# Altium schematic symbol library Interface_I2C.SchLib: 424 symbols (part 2 of 23)
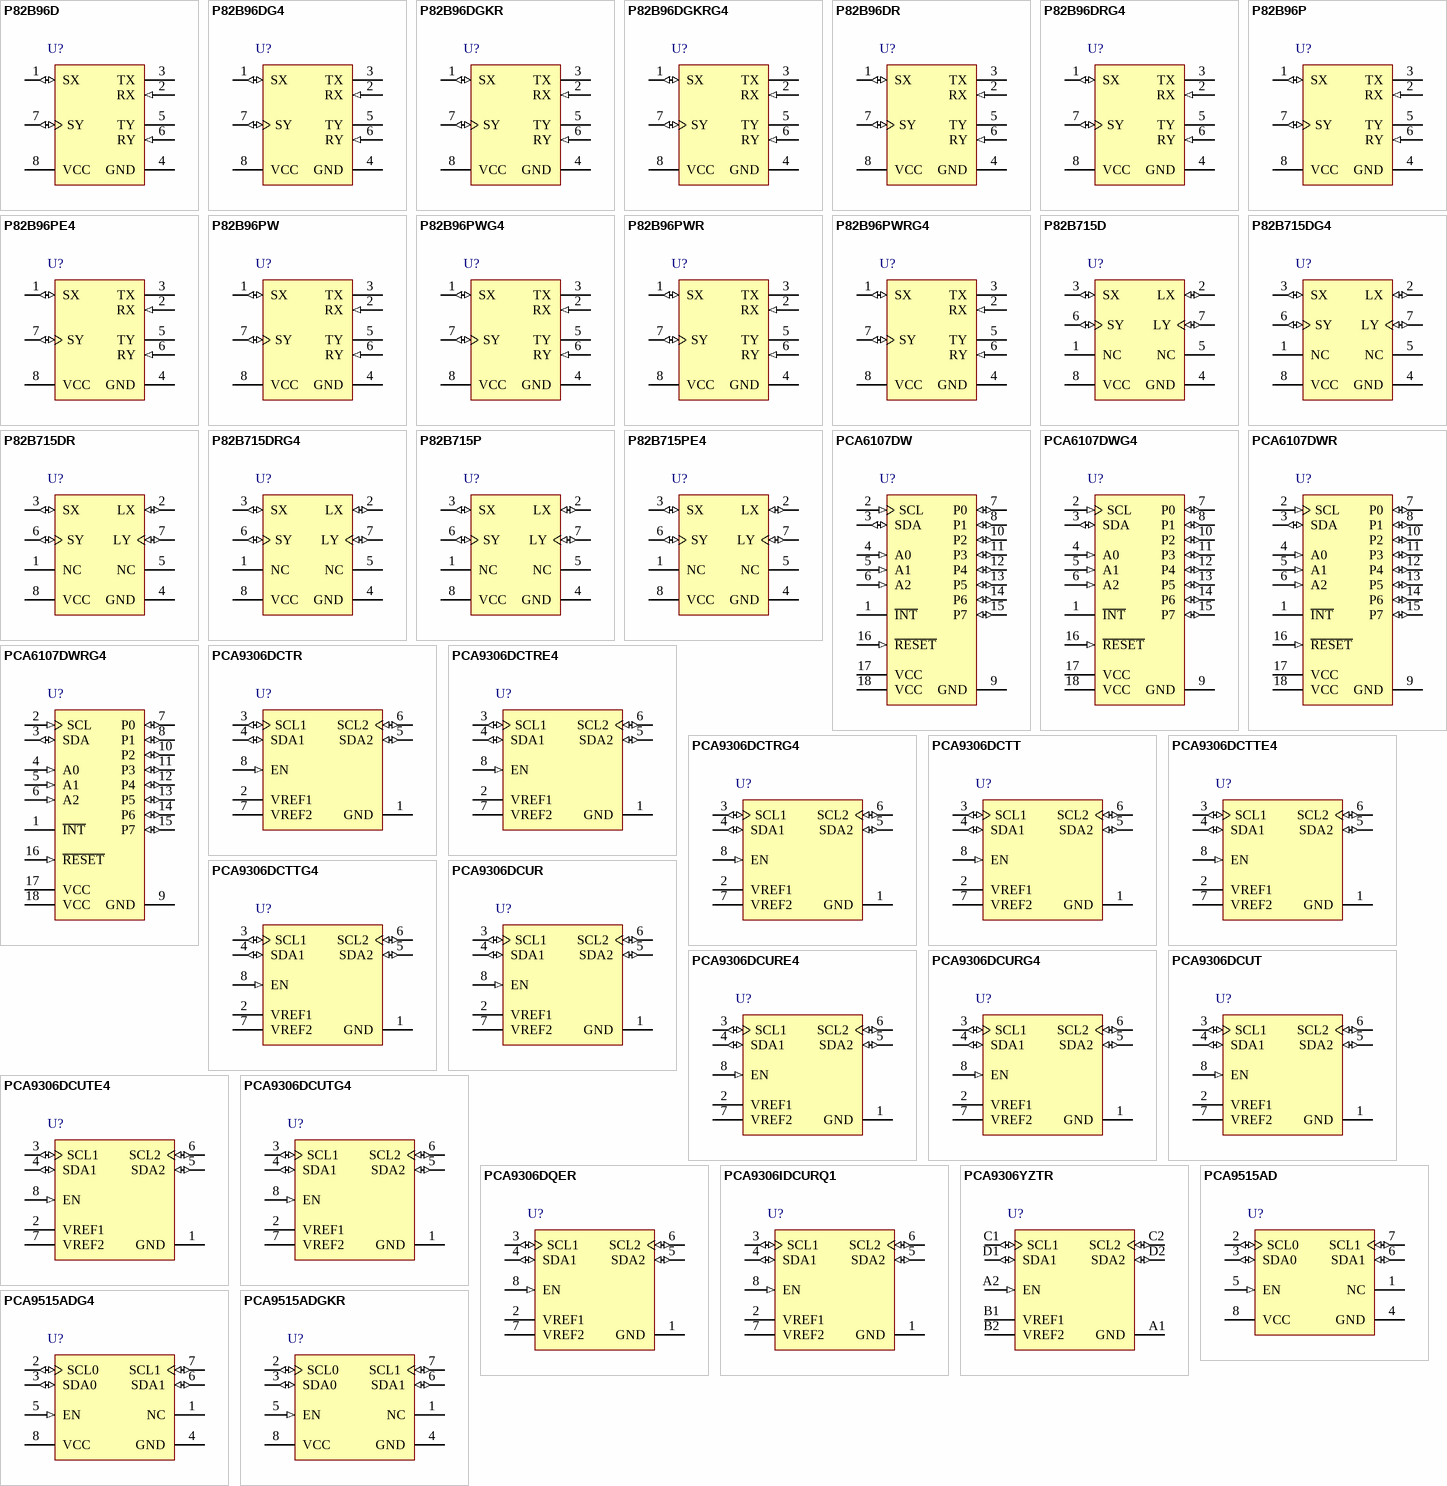
[diagram p14: symbols P82B96D to PCA9515ADGKR]

## PCA9306DCTRG4
designator U?
Dual Bi-Directional I2C-Bus and SMBus Voltage Level-Translator, 0 to 5.5 V, -40 to 85 degC, 8-pin SM8 (DCT), Green (RoHS & no Sb/Br); Manufacturer: Texas Instruments; PartNumber: PCA9306DCTRG4; SubFamily: I2C Special Function; No. of Outputs: 2; tpd max(ns): 1.5; fSCLK(Max)(MHz): 400; Function: Voltage Translator; Vcc range(V): 0 to 5.5; Enable Pin: Yes; Rating: Catalog; DatasheetVersion: SCPS113J; PackageVersion: revC, Sep-2002; PackageReference: DCT8; PackageDescription: 8-Pin Thin Small Outline Package 3 x 2.8 mm Body ,0.65 mm Pitch; Supplier 1: Digi-Key; Supplier Part Number 1: PCA9306DCTRG4-ND; Supplier 2: Newark; Supplier Part Number 2: 12P7762; Supplier 3: Mouser; Supplier Part Number 3: 595-PCA9306DCTRG4; Eco-Plan: Green (RoHS & no Sb/Br); Max Frequency(kHz): 400; Open Drain I/O Type: Yes; 5V Tolerant I/O: Yes; On-Chip Power-on-Reset: No; Mounting Technology: Surface Mount; Code_JEDEC: MO-187-DA; ComponentLink1Description: Datasheet; ComponentLink1URL: http://www.ti.com/general/docs/lit/getliterature.tsp?genericPartNumber=PCA9306&fileType=pdf; ComponentLink2Description: Package Specification; ComponentLink2URL: http://www.ti.com/litv/pdf/mpds049b
footprint DCT8_N (TSOP, 8-Leads, Body 3x2.8mm, Pitch 0.65mm, IPC Medium Density)
footprint DCT8_L (TSOP, 8-Leads, Body 3x2.8mm, Pitch 0.65mm, IPC High Density)
footprint DCT8_M (TSOP, 8-Leads, Body 3x2.8mm, Pitch 0.65mm, IPC Low Density)
pins: 1 GND (power) "Ground, 0 V", 2 VREF1 (power) "Low-voltage-side reference supply voltage for SCL1 and SDA1", 3 SCL1 (io) "Serial clock, low-voltage side", 4 SDA1 (io) "Serial data, low-voltage side", 5 SDA2 (io) "Serial data, high-voltage side", 6 SCL2 (io) "Serial clock, high-voltage side", 7 VREF2 (power) "High-voltage-side reference supply voltage for SCL2 and SDA2", 8 EN (in) "Switch enable input"

## PCA9306DCTT
designator U?
Dual Bi-Directional I2C-Bus and SMBus Voltage Level-Translator, 0 to 5.5 V, -40 to 85 degC, 8-pin SM8 (DCT), Green (RoHS & no Sb/Br); Manufacturer: Texas Instruments; PartNumber: PCA9306DCTT; SubFamily: I2C Special Function; No. of Outputs: 2; tpd max(ns): 1.5; fSCLK(Max)(MHz): 400; Function: Voltage Translator; Vcc range(V): 0 to 5.5; Enable Pin: Yes; Rating: Catalog; DatasheetVersion: SCPS113J; PackageVersion: revC, Sep-2002; PackageReference: DCT8; PackageDescription: 8-Pin Thin Small Outline Package 3 x 2.8 mm Body ,0.65 mm Pitch; Supplier 1: Digi-Key; Supplier Part Number 1: PCA9306DCTT-ND; Supplier 2: Farnell; Supplier Part Number 2: 1408281; Supplier 3: Newark; Supplier Part Number 3: 65J6233; Supplier 4: Mouser; Supplier Part Number 4: 595-PCA9306DCTT; Eco-Plan: Green (RoHS & no Sb/Br); Max Frequency(kHz): 400; Open Drain I/O Type: Yes; 5V Tolerant I/O: Yes; On-Chip Power-on-Reset: No; Mounting Technology: Surface Mount; Code_JEDEC: MO-187-DA; ComponentLink1Description: Datasheet; ComponentLink1URL: http://www.ti.com/general/docs/lit/getliterature.tsp?genericPartNumber=PCA9306&fileType=pdf; ComponentLink2Description: Package Specification; ComponentLink2URL: http://www.ti.com/litv/pdf/mpds049b
footprint DCT8_N (TSOP, 8-Leads, Body 3x2.8mm, Pitch 0.65mm, IPC Medium Density)
footprint DCT8_L (TSOP, 8-Leads, Body 3x2.8mm, Pitch 0.65mm, IPC High Density)
footprint DCT8_M (TSOP, 8-Leads, Body 3x2.8mm, Pitch 0.65mm, IPC Low Density)
pins: 1 GND (power) "Ground, 0 V", 2 VREF1 (power) "Low-voltage-side reference supply voltage for SCL1 and SDA1", 3 SCL1 (io) "Serial clock, low-voltage side", 4 SDA1 (io) "Serial data, low-voltage side", 5 SDA2 (io) "Serial data, high-voltage side", 6 SCL2 (io) "Serial clock, high-voltage side", 7 VREF2 (power) "High-voltage-side reference supply voltage for SCL2 and SDA2", 8 EN (in) "Switch enable input"

## PCA9306DCTTE4
designator U?
Dual Bi-Directional I2C-Bus and SMBus Voltage Level-Translator, 0 to 5.5 V, -40 to 85 degC, 8-pin SM8 (DCT), Green (RoHS & no Sb/Br); Manufacturer: Texas Instruments; PartNumber: PCA9306DCTTE4; SubFamily: I2C Special Function; No. of Outputs: 2; tpd max(ns): 1.5; fSCLK(Max)(MHz): 400; Function: Voltage Translator; Vcc range(V): 0 to 5.5; Enable Pin: Yes; Rating: Catalog; DatasheetVersion: SCPS113J; PackageVersion: revC, Sep-2002; PackageReference: DCT8; PackageDescription: 8-Pin Thin Small Outline Package 3 x 2.8 mm Body ,0.65 mm Pitch; Supplier 1: Digi-Key; Supplier Part Number 1: PCA9306DCTTE4-ND; Supplier 2: Newark; Supplier Part Number 2: 70K4189; Supplier 3: Mouser; Supplier Part Number 3: 595-PCA9306DCTTE4; Eco-Plan: Green (RoHS & no Sb/Br); Max Frequency(kHz): 400; Open Drain I/O Type: Yes; 5V Tolerant I/O: Yes; On-Chip Power-on-Reset: No; Mounting Technology: Surface Mount; Code_JEDEC: MO-187-DA; ComponentLink1Description: Datasheet; ComponentLink1URL: http://www.ti.com/general/docs/lit/getliterature.tsp?genericPartNumber=PCA9306&fileType=pdf; ComponentLink2Description: Package Specification; ComponentLink2URL: http://www.ti.com/litv/pdf/mpds049b
footprint DCT8_N (TSOP, 8-Leads, Body 3x2.8mm, Pitch 0.65mm, IPC Medium Density)
footprint DCT8_L (TSOP, 8-Leads, Body 3x2.8mm, Pitch 0.65mm, IPC High Density)
footprint DCT8_M (TSOP, 8-Leads, Body 3x2.8mm, Pitch 0.65mm, IPC Low Density)
pins: 1 GND (power) "Ground, 0 V", 2 VREF1 (power) "Low-voltage-side reference supply voltage for SCL1 and SDA1", 3 SCL1 (io) "Serial clock, low-voltage side", 4 SDA1 (io) "Serial data, low-voltage side", 5 SDA2 (io) "Serial data, high-voltage side", 6 SCL2 (io) "Serial clock, high-voltage side", 7 VREF2 (power) "High-voltage-side reference supply voltage for SCL2 and SDA2", 8 EN (in) "Switch enable input"

## PCA9306DCTTG4
designator U?
Dual Bi-Directional I2C-Bus and SMBus Voltage Level-Translator, 0 to 5.5 V, -40 to 85 degC, 8-pin SM8 (DCT), Green (RoHS & no Sb/Br); Manufacturer: Texas Instruments; PartNumber: PCA9306DCTTG4; SubFamily: I2C Special Function; No. of Outputs: 2; tpd max(ns): 1.5; fSCLK(Max)(MHz): 400; Function: Voltage Translator; Vcc range(V): 0 to 5.5; Enable Pin: Yes; Rating: Catalog; DatasheetVersion: SCPS113J; PackageVersion: revC, Sep-2002; PackageReference: DCT8; PackageDescription: 8-Pin Thin Small Outline Package 3 x 2.8 mm Body ,0.65 mm Pitch; Supplier 1: Digi-Key; Supplier Part Number 1: PCA9306DCTTG4-ND; Supplier 2: Newark; Supplier Part Number 2: 12P7763; Supplier 3: Mouser; Supplier Part Number 3: 595-PCA9306DCTTG4; Eco-Plan: Green (RoHS & no Sb/Br); Max Frequency(kHz): 400; Open Drain I/O Type: Yes; 5V Tolerant I/O: Yes; On-Chip Power-on-Reset: No; Mounting Technology: Surface Mount; Code_JEDEC: MO-187-DA; ComponentLink1Description: Datasheet; ComponentLink1URL: http://www.ti.com/general/docs/lit/getliterature.tsp?genericPartNumber=PCA9306&fileType=pdf; ComponentLink2Description: Package Specification; ComponentLink2URL: http://www.ti.com/litv/pdf/mpds049b
footprint DCT8_N (TSOP, 8-Leads, Body 3x2.8mm, Pitch 0.65mm, IPC Medium Density)
footprint DCT8_L (TSOP, 8-Leads, Body 3x2.8mm, Pitch 0.65mm, IPC High Density)
footprint DCT8_M (TSOP, 8-Leads, Body 3x2.8mm, Pitch 0.65mm, IPC Low Density)
pins: 1 GND (power) "Ground, 0 V", 2 VREF1 (power) "Low-voltage-side reference supply voltage for SCL1 and SDA1", 3 SCL1 (io) "Serial clock, low-voltage side", 4 SDA1 (io) "Serial data, low-voltage side", 5 SDA2 (io) "Serial data, high-voltage side", 6 SCL2 (io) "Serial clock, high-voltage side", 7 VREF2 (power) "High-voltage-side reference supply voltage for SCL2 and SDA2", 8 EN (in) "Switch enable input"

## PCA9306DCUR
designator U?
Dual Bi-Directional I2C-Bus and SMBus Voltage Level-Translator, 0 to 5.5 V, -40 to 85 degC, 8-pin US8 (DCU), Green (RoHS & no Sb/Br); Manufacturer: Texas Instruments; PartNumber: PCA9306DCUR; SubFamily: I2C Special Function; No. of Outputs: 2; tpd max(ns): 1.5; fSCLK(Max)(MHz): 400; Function: Voltage Translator; Vcc range(V): 0 to 5.5; Enable Pin: Yes; Rating: Catalog; DatasheetVersion: SCPS113J; PackageVersion: revF, Jul-2005; PackageReference: DCU8; PackageDescription: 8-Pin Thin Shrink Small Outline Package 0.5 mm Pitch; Supplier 1: Digi-Key; Supplier Part Number 1: 296-17988-2-ND; Supplier 2: Digi-Key; Supplier Part Number 2: 296-17988-1-ND; Supplier 3: Digi-Key; Supplier Part Number 3: 296-17988-6-ND; Supplier 4: Farnell; Supplier Part Number 4: 2124922; Supplier 5: Newark; Supplier Part Number 5: 24K4704; Supplier 6: Mouser; Supplier Part Number 6: 595-PCA9306DCUR; Eco-Plan: Green (RoHS & no Sb/Br); Max Frequency(kHz): 400; Open Drain I/O Type: Yes; 5V Tolerant I/O: Yes; On-Chip Power-on-Reset: No; Mounting Technology: Surface Mount; Code_JEDEC: MO-187-CA; ComponentLink1Description: Datasheet; ComponentLink1URL: http://www.ti.com/general/docs/lit/getliterature.tsp?genericPartNumber=PCA9306&fileType=pdf; ComponentLink2Description: Package Specification; ComponentLink2URL: http://www.ti.com/litv/pdf/mpds050d
footprint DCU8_N (TSSOP, 8-Leads, Body 2x2.3mm, Pitch 0.5mm, IPC Medium Density)
footprint DCU8_L (TSSOP, 8-Leads, Body 2x2.3mm, Pitch 0.5mm, IPC High Density)
footprint DCU8_M (TSSOP, 8-Leads, Body 2x2.3mm, Pitch 0.5mm, IPC Low Density)
pins: 1 GND (power) "Ground, 0 V", 2 VREF1 (power) "Low-voltage-side reference supply voltage for SCL1 and SDA1", 3 SCL1 (io) "Serial clock, low-voltage side", 4 SDA1 (io) "Serial data, low-voltage side", 5 SDA2 (io) "Serial data, high-voltage side", 6 SCL2 (io) "Serial clock, high-voltage side", 7 VREF2 (power) "High-voltage-side reference supply voltage for SCL2 and SDA2", 8 EN (in) "Switch enable input"

## PCA9306DCURE4
designator U?
Dual Bi-Directional I2C-Bus and SMBus Voltage Level-Translator, 0 to 5.5 V, -40 to 85 degC, 8-pin US8 (DCU), Green (RoHS & no Sb/Br); Manufacturer: Texas Instruments; PartNumber: PCA9306DCURE4; SubFamily: I2C Special Function; No. of Outputs: 2; tpd max(ns): 1.5; fSCLK(Max)(MHz): 400; Function: Voltage Translator; Vcc range(V): 0 to 5.5; Enable Pin: Yes; Rating: Catalog; DatasheetVersion: SCPS113J; PackageVersion: revF, Jul-2005; PackageReference: DCU8; PackageDescription: 8-Pin Thin Shrink Small Outline Package 0.5 mm Pitch; Supplier 1: Digi-Key; Supplier Part Number 1: PCA9306DCURE4-ND; Supplier 2: Newark; Supplier Part Number 2: 37K0653; Supplier 3: Mouser; Supplier Part Number 3: 595-PCA9306DCURE4; Eco-Plan: Green (RoHS & no Sb/Br); Max Frequency(kHz): 400; Open Drain I/O Type: Yes; 5V Tolerant I/O: Yes; On-Chip Power-on-Reset: No; Mounting Technology: Surface Mount; Code_JEDEC: MO-187-CA; ComponentLink1Description: Datasheet; ComponentLink1URL: http://www.ti.com/general/docs/lit/getliterature.tsp?genericPartNumber=PCA9306&fileType=pdf; ComponentLink2Description: Package Specification; ComponentLink2URL: http://www.ti.com/litv/pdf/mpds050d
footprint DCU8_N (TSSOP, 8-Leads, Body 2x2.3mm, Pitch 0.5mm, IPC Medium Density)
footprint DCU8_L (TSSOP, 8-Leads, Body 2x2.3mm, Pitch 0.5mm, IPC High Density)
footprint DCU8_M (TSSOP, 8-Leads, Body 2x2.3mm, Pitch 0.5mm, IPC Low Density)
pins: 1 GND (power) "Ground, 0 V", 2 VREF1 (power) "Low-voltage-side reference supply voltage for SCL1 and SDA1", 3 SCL1 (io) "Serial clock, low-voltage side", 4 SDA1 (io) "Serial data, low-voltage side", 5 SDA2 (io) "Serial data, high-voltage side", 6 SCL2 (io) "Serial clock, high-voltage side", 7 VREF2 (power) "High-voltage-side reference supply voltage for SCL2 and SDA2", 8 EN (in) "Switch enable input"

## PCA9306DCURG4
designator U?
Dual Bi-Directional I2C-Bus and SMBus Voltage Level-Translator, 0 to 5.5 V, -40 to 85 degC, 8-pin US8 (DCU), Green (RoHS & no Sb/Br); Manufacturer: Texas Instruments; PartNumber: PCA9306DCURG4; SubFamily: I2C Special Function; No. of Outputs: 2; tpd max(ns): 1.5; fSCLK(Max)(MHz): 400; Function: Voltage Translator; Vcc range(V): 0 to 5.5; Enable Pin: Yes; Rating: Catalog; DatasheetVersion: SCPS113J; PackageVersion: revF, Jul-2005; PackageReference: DCU8; PackageDescription: 8-Pin Thin Shrink Small Outline Package 0.5 mm Pitch; Supplier 1: Digi-Key; Supplier Part Number 1: PCA9306DCURG4-ND; Supplier 2: Newark; Supplier Part Number 2: 46M6761; Supplier 3: Mouser; Supplier Part Number 3: 595-PCA9306DCURG4; Eco-Plan: Green (RoHS & no Sb/Br); Max Frequency(kHz): 400; Open Drain I/O Type: Yes; 5V Tolerant I/O: Yes; On-Chip Power-on-Reset: No; Mounting Technology: Surface Mount; Code_JEDEC: MO-187-CA; ComponentLink1Description: Datasheet; ComponentLink1URL: http://www.ti.com/general/docs/lit/getliterature.tsp?genericPartNumber=PCA9306&fileType=pdf; ComponentLink2Description: Package Specification; ComponentLink2URL: http://www.ti.com/litv/pdf/mpds050d
footprint DCU8_N (TSSOP, 8-Leads, Body 2x2.3mm, Pitch 0.5mm, IPC Medium Density)
footprint DCU8_L (TSSOP, 8-Leads, Body 2x2.3mm, Pitch 0.5mm, IPC High Density)
footprint DCU8_M (TSSOP, 8-Leads, Body 2x2.3mm, Pitch 0.5mm, IPC Low Density)
pins: 1 GND (power) "Ground, 0 V", 2 VREF1 (power) "Low-voltage-side reference supply voltage for SCL1 and SDA1", 3 SCL1 (io) "Serial clock, low-voltage side", 4 SDA1 (io) "Serial data, low-voltage side", 5 SDA2 (io) "Serial data, high-voltage side", 6 SCL2 (io) "Serial clock, high-voltage side", 7 VREF2 (power) "High-voltage-side reference supply voltage for SCL2 and SDA2", 8 EN (in) "Switch enable input"

## PCA9306DCUT
designator U?
Dual Bi-Directional I2C-Bus and SMBus Voltage Level-Translator, 0 to 5.5 V, -40 to 85 degC, 8-pin US8 (DCU), Green (RoHS & no Sb/Br); Manufacturer: Texas Instruments; PartNumber: PCA9306DCUT; SubFamily: I2C Special Function; No. of Outputs: 2; tpd max(ns): 1.5; fSCLK(Max)(MHz): 400; Function: Voltage Translator; Vcc range(V): 0 to 5.5; Enable Pin: Yes; Rating: Catalog; DatasheetVersion: SCPS113J; PackageVersion: revF, Jul-2005; PackageReference: DCU8; PackageDescription: 8-Pin Thin Shrink Small Outline Package 0.5 mm Pitch; Supplier 1: Digi-Key; Supplier Part Number 1: PCA9306DCUT-ND; Supplier 2: Farnell; Supplier Part Number 2: 2126364; Supplier 3: Newark; Supplier Part Number 3: 24K4705; Supplier 4: Mouser; Supplier Part Number 4: 595-PCA9306DCUT; Eco-Plan: Green (RoHS & no Sb/Br); Max Frequency(kHz): 400; Open Drain I/O Type: Yes; 5V Tolerant I/O: Yes; On-Chip Power-on-Reset: No; Mounting Technology: Surface Mount; Code_JEDEC: MO-187-CA; ComponentLink1Description: Datasheet; ComponentLink1URL: http://www.ti.com/general/docs/lit/getliterature.tsp?genericPartNumber=PCA9306&fileType=pdf; ComponentLink2Description: Package Specification; ComponentLink2URL: http://www.ti.com/litv/pdf/mpds050d
footprint DCU8_N (TSSOP, 8-Leads, Body 2x2.3mm, Pitch 0.5mm, IPC Medium Density)
footprint DCU8_L (TSSOP, 8-Leads, Body 2x2.3mm, Pitch 0.5mm, IPC High Density)
footprint DCU8_M (TSSOP, 8-Leads, Body 2x2.3mm, Pitch 0.5mm, IPC Low Density)
pins: 1 GND (power) "Ground, 0 V", 2 VREF1 (power) "Low-voltage-side reference supply voltage for SCL1 and SDA1", 3 SCL1 (io) "Serial clock, low-voltage side", 4 SDA1 (io) "Serial data, low-voltage side", 5 SDA2 (io) "Serial data, high-voltage side", 6 SCL2 (io) "Serial clock, high-voltage side", 7 VREF2 (power) "High-voltage-side reference supply voltage for SCL2 and SDA2", 8 EN (in) "Switch enable input"

## PCA9306DCUTE4
designator U?
Dual Bi-Directional I2C-Bus and SMBus Voltage Level-Translator, 0 to 5.5 V, -40 to 85 degC, 8-pin US8 (DCU), Green (RoHS & no Sb/Br); Manufacturer: Texas Instruments; PartNumber: PCA9306DCUTE4; SubFamily: I2C Special Function; No. of Outputs: 2; tpd max(ns): 1.5; fSCLK(Max)(MHz): 400; Function: Voltage Translator; Vcc range(V): 0 to 5.5; Enable Pin: Yes; Rating: Catalog; DatasheetVersion: SCPS113J; PackageVersion: revF, Jul-2005; PackageReference: DCU8; PackageDescription: 8-Pin Thin Shrink Small Outline Package 0.5 mm Pitch; Supplier 1: Digi-Key; Supplier Part Number 1: PCA9306DCUTE4-ND; Supplier 2: Farnell; Supplier Part Number 2: 1053573RL; Supplier 3: Farnell; Supplier Part Number 3: 1053573; Supplier 4: Newark; Supplier Part Number 4: 97K6976; Supplier 5: Mouser; Supplier Part Number 5: 595-PCA9306DCUTE4; Eco-Plan: Green (RoHS & no Sb/Br); Max Frequency(kHz): 400; Open Drain I/O Type: Yes; 5V Tolerant I/O: Yes; On-Chip Power-on-Reset: No; Mounting Technology: Surface Mount; Code_JEDEC: MO-187-CA; ComponentLink1Description: Datasheet; ComponentLink1URL: http://www.ti.com/general/docs/lit/getliterature.tsp?genericPartNumber=PCA9306&fileType=pdf; ComponentLink2Description: Package Specification; ComponentLink2URL: http://www.ti.com/litv/pdf/mpds050d
footprint DCU8_N (TSSOP, 8-Leads, Body 2x2.3mm, Pitch 0.5mm, IPC Medium Density)
footprint DCU8_L (TSSOP, 8-Leads, Body 2x2.3mm, Pitch 0.5mm, IPC High Density)
footprint DCU8_M (TSSOP, 8-Leads, Body 2x2.3mm, Pitch 0.5mm, IPC Low Density)
pins: 1 GND (power) "Ground, 0 V", 2 VREF1 (power) "Low-voltage-side reference supply voltage for SCL1 and SDA1", 3 SCL1 (io) "Serial clock, low-voltage side", 4 SDA1 (io) "Serial data, low-voltage side", 5 SDA2 (io) "Serial data, high-voltage side", 6 SCL2 (io) "Serial clock, high-voltage side", 7 VREF2 (power) "High-voltage-side reference supply voltage for SCL2 and SDA2", 8 EN (in) "Switch enable input"

## PCA9306DCUTG4
designator U?
Dual Bi-Directional I2C-Bus and SMBus Voltage Level-Translator, 0 to 5.5 V, -40 to 85 degC, 8-pin US8 (DCU), Green (RoHS & no Sb/Br); Manufacturer: Texas Instruments; PartNumber: PCA9306DCUTG4; SubFamily: I2C Special Function; No. of Outputs: 2; tpd max(ns): 1.5; fSCLK(Max)(MHz): 400; Function: Voltage Translator; Vcc range(V): 0 to 5.5; Enable Pin: Yes; Rating: Catalog; DatasheetVersion: SCPS113J; PackageVersion: revF, Jul-2005; PackageReference: DCU8; PackageDescription: 8-Pin Thin Shrink Small Outline Package 0.5 mm Pitch; Supplier 1: Digi-Key; Supplier Part Number 1: PCA9306DCUTG4-ND; Supplier 2: Newark; Supplier Part Number 2: 46M6762; Supplier 3: Mouser; Supplier Part Number 3: 595-PCA9306DCUTG4; Eco-Plan: Green (RoHS & no Sb/Br); Max Frequency(kHz): 400; Open Drain I/O Type: Yes; 5V Tolerant I/O: Yes; On-Chip Power-on-Reset: No; Mounting Technology: Surface Mount; Code_JEDEC: MO-187-CA; ComponentLink1Description: Datasheet; ComponentLink1URL: http://www.ti.com/general/docs/lit/getliterature.tsp?genericPartNumber=PCA9306&fileType=pdf; ComponentLink2Description: Package Specification; ComponentLink2URL: http://www.ti.com/litv/pdf/mpds050d
footprint DCU8_N (TSSOP, 8-Leads, Body 2x2.3mm, Pitch 0.5mm, IPC Medium Density)
footprint DCU8_L (TSSOP, 8-Leads, Body 2x2.3mm, Pitch 0.5mm, IPC High Density)
footprint DCU8_M (TSSOP, 8-Leads, Body 2x2.3mm, Pitch 0.5mm, IPC Low Density)
pins: 1 GND (power) "Ground, 0 V", 2 VREF1 (power) "Low-voltage-side reference supply voltage for SCL1 and SDA1", 3 SCL1 (io) "Serial clock, low-voltage side", 4 SDA1 (io) "Serial data, low-voltage side", 5 SDA2 (io) "Serial data, high-voltage side", 6 SCL2 (io) "Serial clock, high-voltage side", 7 VREF2 (power) "High-voltage-side reference supply voltage for SCL2 and SDA2", 8 EN (in) "Switch enable input"

## PCA9306DQER
designator U?
Dual Bi-Directional I2C-Bus and SMBus Voltage Level-Translator, 0 to 5.5 V, -40 to 85 degC, 8-pin X2SON (DQE), Green (RoHS & no Sb/Br); Manufacturer: Texas Instruments; PartNumber: PCA9306DQER; SubFamily: I2C Special Function; No. of Outputs: 2; tpd max(ns): 1.5; fSCLK(Max)(MHz): 400; Function: Voltage Translator; Vcc range(V): 0 to 5.5; Enable Pin: Yes; Rating: Catalog; DatasheetVersion: SCPS113J; PackageVersion: revB, Oct-2008; PackageReference: DQE8; PackageDescription: 8-Pin Plastic Small Outline No-Lead, 1.4 x 1 x 0.4 mm Body, 0.35 mm Pitch; Supplier 1: Digi-Key; Supplier Part Number 1: 296-27957-2-ND; Supplier 2: Digi-Key; Supplier Part Number 2: 296-27957-1-ND; Supplier 3: Digi-Key; Supplier Part Number 3: 296-27957-6-ND; Supplier 4: Farnell; Supplier Part Number 4: 1862626; Supplier 5: Newark; Supplier Part Number 5: 21T3850; Supplier 6: Mouser; Supplier Part Number 6: 595-PCA9306DQER; Eco-Plan: Green (RoHS & no Sb/Br); Max Frequency(kHz): 400; Open Drain I/O Type: Yes; 5V Tolerant I/O: Yes; On-Chip Power-on-Reset: No; Mounting Technology: Surface Mount; Code_JEDEC: MO-287-X2EAF; ComponentLink1Description: Datasheet; ComponentLink1URL: http://www.ti.com/general/docs/lit/getliterature.tsp?genericPartNumber=PCA9306&fileType=pdf; ComponentLink2Description: Package Specification; ComponentLink2URL: http://www.ti.com/litv/pdf/mpds049b
footprint DQE8 (SON, 8-Leads, Body 1.4x1mm, Pitch 0.35mm, TI Recommended)
pins: 1 GND (power) "Ground, 0  V", 2 VREF1 (power) "Low-voltage-side reference supply voltage for SCL1 and SDA1", 3 SCL1 (io) "Serial clock, low-voltage side", 4 SDA1 (io) "Serial data, low-voltage side", 5 SDA2 (io) "Serial data, high-voltage side", 6 SCL2 (io) "Serial clock, high-voltage side", 7 VREF2 (power) "High-voltage-side reference supply voltage for SCL2 and SDA2", 8 EN (in) "Switch enable input"

## PCA9306IDCURQ1
designator U?
Automotive Catalog Dual Bidirectional I2C Bus and SMBus Voltage-Level Translator, 0 to 5.5 V,-40 to 85 degC,8-pin US8 (DCU), Green (RoHS & no Sb/Br); Manufacturer: Texas Instruments; PartNumber: PCA9306IDCURQ1; SubFamily: I2C Special Function; No. of Outputs: 2; tpd max(ns): 1.4; fSCLK(Max)(MHz): 400; Function: Voltage Translator; Vcc range(V): 0 to 5.5; Enable Pin: Yes; DatasheetVersion: SCPS178; PackageVersion: revF, Jul-2005; PackageReference: DCU8; PackageDescription: 8-Pin Thin Shrink Small Outline Package 0.5 mm Pitch; Supplier 1: Digi-Key; Supplier Part Number 1: 296-28424-2-ND; Supplier 2: Digi-Key; Supplier Part Number 2: 296-28424-1-ND; Supplier 3: Digi-Key; Supplier Part Number 3: 296-28424-6-ND; Supplier 4: Newark; Supplier Part Number 4: 96M3993; Supplier 5: Mouser; Supplier Part Number 5: 595-PCA9306IDCURQ1; Eco-Plan: Green (RoHS & no Sb/Br); Max Frequency(kHz): 400; Open Drain I/O Type: Yes; 5V Tolerant I/O: Yes; On-Chip Power-on-Reset: No; Rating: Automotive; Mounting Technology: Surface Mount; Code_JEDEC: MO-187-CA; ComponentLink1Description: Datasheet; ComponentLink1URL: http://www.ti.com/general/docs/lit/getliterature.tsp?genericPartNumber=PCA9306-Q1&fileType=pdf; ComponentLink2Description: Package Specification; ComponentLink2URL: http://www.ti.com/litv/pdf/mpds050d
footprint DCU8_N (TSSOP, 8-Leads, Body 2x2.3mm, Pitch 0.5mm, IPC Medium Density)
footprint DCU8_L (TSSOP, 8-Leads, Body 2x2.3mm, Pitch 0.5mm, IPC High Density)
footprint DCU8_M (TSSOP, 8-Leads, Body 2x2.3mm, Pitch 0.5mm, IPC Low Density)
pins: 1 GND (power) "Ground, 0  V", 2 VREF1 (power) "Low-voltage-side reference supply voltage for SCL1 and SDA1", 3 SCL1 (io) "Serial clock, low-voltage side. Connect to VREF1 through a pullup resistor.", 4 SDA1 (io) "Serial data, low-voltage side. Connect to VREF1 through a pullup resistor.", 5 SDA2 (io) "Serial data, high-voltage side. Connect to VREF2 through a pullup resistor.", 6 SCL2 (io) "Serial clock, high-voltage side. Connect to VREF2 through a pullup resistor", 7 VREF2 (power) "High-voltage-side reference supply voltage for SCL2 and SDA2", 8 EN (in) "Switch enable input. Connected to VREF2 and pulled up through a high resistor."

## PCA9306YZTR
designator U?
Dual Bi-Directional I2C-Bus and SMBus Voltage Level-Translator, 0 to 5.5 V, -40 to 85 degC, 8-pin DSBGA (YZT), Green (RoHS & no Sb/Br); Manufacturer: Texas Instruments; PartNumber: PCA9306YZTR; SubFamily: I2C Special Function; No. of Outputs: 2; tpd max(ns): 1.5; fSCLK(Max)(MHz): 400; Function: Voltage Translator; Vcc range(V): 0 to 5.5; Enable Pin: Yes; Rating: Catalog; DatasheetVersion: SCPS113J; PackageVersion: revF, Oct-2006; PackageReference: YZT8; PackageDescription: 8-Ball Die-Size Ball Grid Array, 1.9 x 0.9 mm Body, 0.5 mm Pitch, Pb-Free; Supplier 1: Digi-Key; Supplier Part Number 1: 296-27958-2-ND; Supplier 2: Digi-Key; Supplier Part Number 2: 296-27958-1-ND; Supplier 3: Digi-Key; Supplier Part Number 3: 296-27958-6-ND; Supplier 4: Farnell; Supplier Part Number 4: 1862627; Supplier 5: Newark; Supplier Part Number 5: 21T3851; Supplier 6: Mouser; Supplier Part Number 6: 595-PCA9306YZTR; Eco-Plan: Green (RoHS & no Sb/Br); Max Frequency(kHz): 400; Open Drain I/O Type: Yes; 5V Tolerant I/O: Yes; On-Chip Power-on-Reset: No; Mounting Technology: Surface Mount; ComponentLink1Description: Datasheet; ComponentLink1URL: http://www.ti.com/general/docs/lit/getliterature.tsp?genericPartNumber=PCA9306&fileType=pdf; ComponentLink2Description: Package Specification; ComponentLink2URL: http://www.ti.com/litv/pdf/mpds049b
footprint YZT8 (BGA, 8-Leads, Body 1.9x0.9mm, Pitch 0.5mm)
pins: A1 GND (power) "Ground, 0  V", A2 EN (in) "Switch enable input", B1 VREF1 (power) "Low-voltage-side reference supply voltage for SCL1 and SDA1", B2 VREF2 (power) "High-voltage-side reference supply voltage for SCL2 and SDA2", C1 SCL1 (io) "Serial clock, low-voltage side", C2 SCL2 (io) "Serial clock, high-voltage side", D1 SDA1 (io) "Serial data, low-voltage side", D2 SDA2 (io) "Serial data, high-voltage side"

## PCA9515AD
designator U?
Dual Bidirectional I2C Bus and SMBus Repeater, 2 Channel Width, 2.3 to 3.6 V, -40 to 85 degC, 8-pin SOIC (D), Green (RoHS & no Sb/Br); Manufacturer: Texas Instruments; PartNumber: PCA9515AD; SubFamily: I2C Hub, Buffer, Repeater; No. of Outputs: 2; VCC(Max)(V): 3.6; VCC(Min)(V): 2.3; Max Frequency(kHz): 400; Vcc range(V): 2.3 to 5.5; 5V Tolerant I/O: Yes; DatasheetVersion: SCPS150B; PackageVersion: revM, Jun-2011; PackageReference: D8; PackageDescription: 8-Pin Plastic Small Outline Integrated Circuit, 4.9 x 3.9 mm, Pitch 1.27 mm Pitch; Supplier 1: Digi-Key; Supplier Part Number 1: PCA9515ADTI-ND; Supplier 2: Newark; Supplier Part Number 2: 80K2690; Supplier 3: Mouser; Supplier Part Number 3: 595-PCA9515AD; Eco-Plan: Green (RoHS & no Sb/Br); Channel Width: 2; Master Side I2C Bus Capacitance Supported(pF): 400; Slave Side I2C Bus Capacitance Supported(pF): 400; Open Drain I/O Type: Yes; Enable Pin: Yes; Mounting Technology: Surface Mount; Code_JEDEC: MS-012AA; ComponentLink1Description: Datasheet; ComponentLink1URL: http://www.ti.com/general/docs/lit/getliterature.tsp?genericPartNumber=PCA9515A&fileType=pdf
footprint D8_N (SOIC, 8-Leads, Body 4.9x3.9mm, Pitch 1.27mm, IPC Medium Density)
footprint D8_L (SOIC, 8-Leads, Body 4.9x3.9mm, Pitch 1.27mm, IPC High Density)
footprint D8_M (SOIC, 8-Leads, Body 4.9x3.9mm, Pitch 1.27mm, IPC Low Density)
pins: 1 NC "No internal connection", 2 SCL0 (io) "Serial clock bus 0", 3 SDA0 (io) "Serial data bus 0", 4 GND (power) "Supply ground", 5 EN (in) "Active-high repeater enable input", 6 SDA1 (io) "Serial data bus 1", 7 SCL1 (io) "Serial clock bus 1", 8 VCC (power) "Supply power"

## PCA9515ADG4
designator U?
Dual Bidirectional I2C Bus and SMBus Repeater, 2 Channel Width, 2.3 to 3.6 V, -40 to 85 degC, 8-pin SOIC (D), Green (RoHS & no Sb/Br); Manufacturer: Texas Instruments; PartNumber: PCA9515ADG4; SubFamily: I2C Hub, Buffer, Repeater; No. of Outputs: 2; VCC(Max)(V): 3.6; VCC(Min)(V): 2.3; Max Frequency(kHz): 400; Vcc range(V): 2.3 to 5.5; 5V Tolerant I/O: Yes; DatasheetVersion: SCPS150B; PackageVersion: revM, Jun-2011; PackageReference: D8; PackageDescription: 8-Pin Plastic Small Outline Integrated Circuit, 4.9 x 3.9 mm, Pitch 1.27 mm Pitch; Supplier 1: Digi-Key; Supplier Part Number 1: PCA9515ADG4-ND; Supplier 2: Mouser; Supplier Part Number 2: 595-PCA9515ADG4; Eco-Plan: Green (RoHS & no Sb/Br); Channel Width: 2; Master Side I2C Bus Capacitance Supported(pF): 400; Slave Side I2C Bus Capacitance Supported(pF): 400; Open Drain I/O Type: Yes; Enable Pin: Yes; Mounting Technology: Surface Mount; Code_JEDEC: MS-012AA; ComponentLink1Description: Datasheet; ComponentLink1URL: http://www.ti.com/general/docs/lit/getliterature.tsp?genericPartNumber=PCA9515A&fileType=pdf
footprint D8_N (SOIC, 8-Leads, Body 4.9x3.9mm, Pitch 1.27mm, IPC Medium Density)
footprint D8_L (SOIC, 8-Leads, Body 4.9x3.9mm, Pitch 1.27mm, IPC High Density)
footprint D8_M (SOIC, 8-Leads, Body 4.9x3.9mm, Pitch 1.27mm, IPC Low Density)
pins: 1 NC "No internal connection", 2 SCL0 (io) "Serial clock bus 0", 3 SDA0 (io) "Serial data bus 0", 4 GND (power) "Supply ground", 5 EN (in) "Active-high repeater enable input", 6 SDA1 (io) "Serial data bus 1", 7 SCL1 (io) "Serial clock bus 1", 8 VCC (power) "Supply power"

## PCA9515ADGKR
designator U?
Dual Bidirectional I2C Bus and SMBus Repeater, 2 Channel Width, 2.3 to 3.6 V, -40 to 85 degC, 8-pin MSOP (DGK), Green (RoHS & no Sb/Br); Manufacturer: Texas Instruments; PartNumber: PCA9515ADGKR; SubFamily: I2C Hub, Buffer, Repeater; No. of Outputs: 2; VCC(Max)(V): 3.6; VCC(Min)(V): 2.3; Max Frequency(kHz): 400; Vcc range(V): 2.3 to 5.5; 5V Tolerant I/O: Yes; DatasheetVersion: SCPS150B; PackageVersion: revE, May-2006; PackageReference: DGK8; PackageDescription: 8-Pin Thin Small Outline Package 3 x 3 mm Body ,0.65 mm Pitch; Supplier 1: Digi-Key; Supplier Part Number 1: 296-20646-2-ND; Supplier 2: Digi-Key; Supplier Part Number 2: 296-20646-1-ND; Supplier 3: Digi-Key; Supplier Part Number 3: 296-20646-6-ND; Supplier 4: Newark; Supplier Part Number 4: 85K1364; Supplier 5: Mouser; Supplier Part Number 5: 595-PCA9515ADGKR; Eco-Plan: Green (RoHS & no Sb/Br); Channel Width: 2; Master Side I2C Bus Capacitance Supported(pF): 400; Slave Side I2C Bus Capacitance Supported(pF): 400; Open Drain I/O Type: Yes; Enable Pin: Yes; Mounting Technology: Surface Mount; Code_JEDEC: MO-187-AA; ComponentLink1Description: Datasheet; ComponentLink1URL: http://www.ti.com/general/docs/lit/getliterature.tsp?genericPartNumber=PCA9515A&fileType=pdf; ComponentLink2Description: Package Specification; ComponentLink2URL: http://www.ti.com/litv/pdf/msoi002j
footprint DGK8_N (TSOP, 8-Leads, Body 3x3mm, Pitch 0.65mm, IPC Medium Density)
footprint DGK8_L (TSOP, 8-Leads, Body 3x3mm, Pitch 0.65mm, IPC High Density)
footprint DGK8_M (TSOP, 8-Leads, Body 3x3mm, Pitch 0.65mm, IPC Low Density)
pins: 1 NC "No internal connection", 2 SCL0 (io) "Serial clock bus 0", 3 SDA0 (io) "Serial data bus 0", 4 GND (power) "Supply ground", 5 EN (in) "Active-high repeater enable input", 6 SDA1 (io) "Serial data bus 1", 7 SCL1 (io) "Serial clock bus 1", 8 VCC (power) "Supply power"

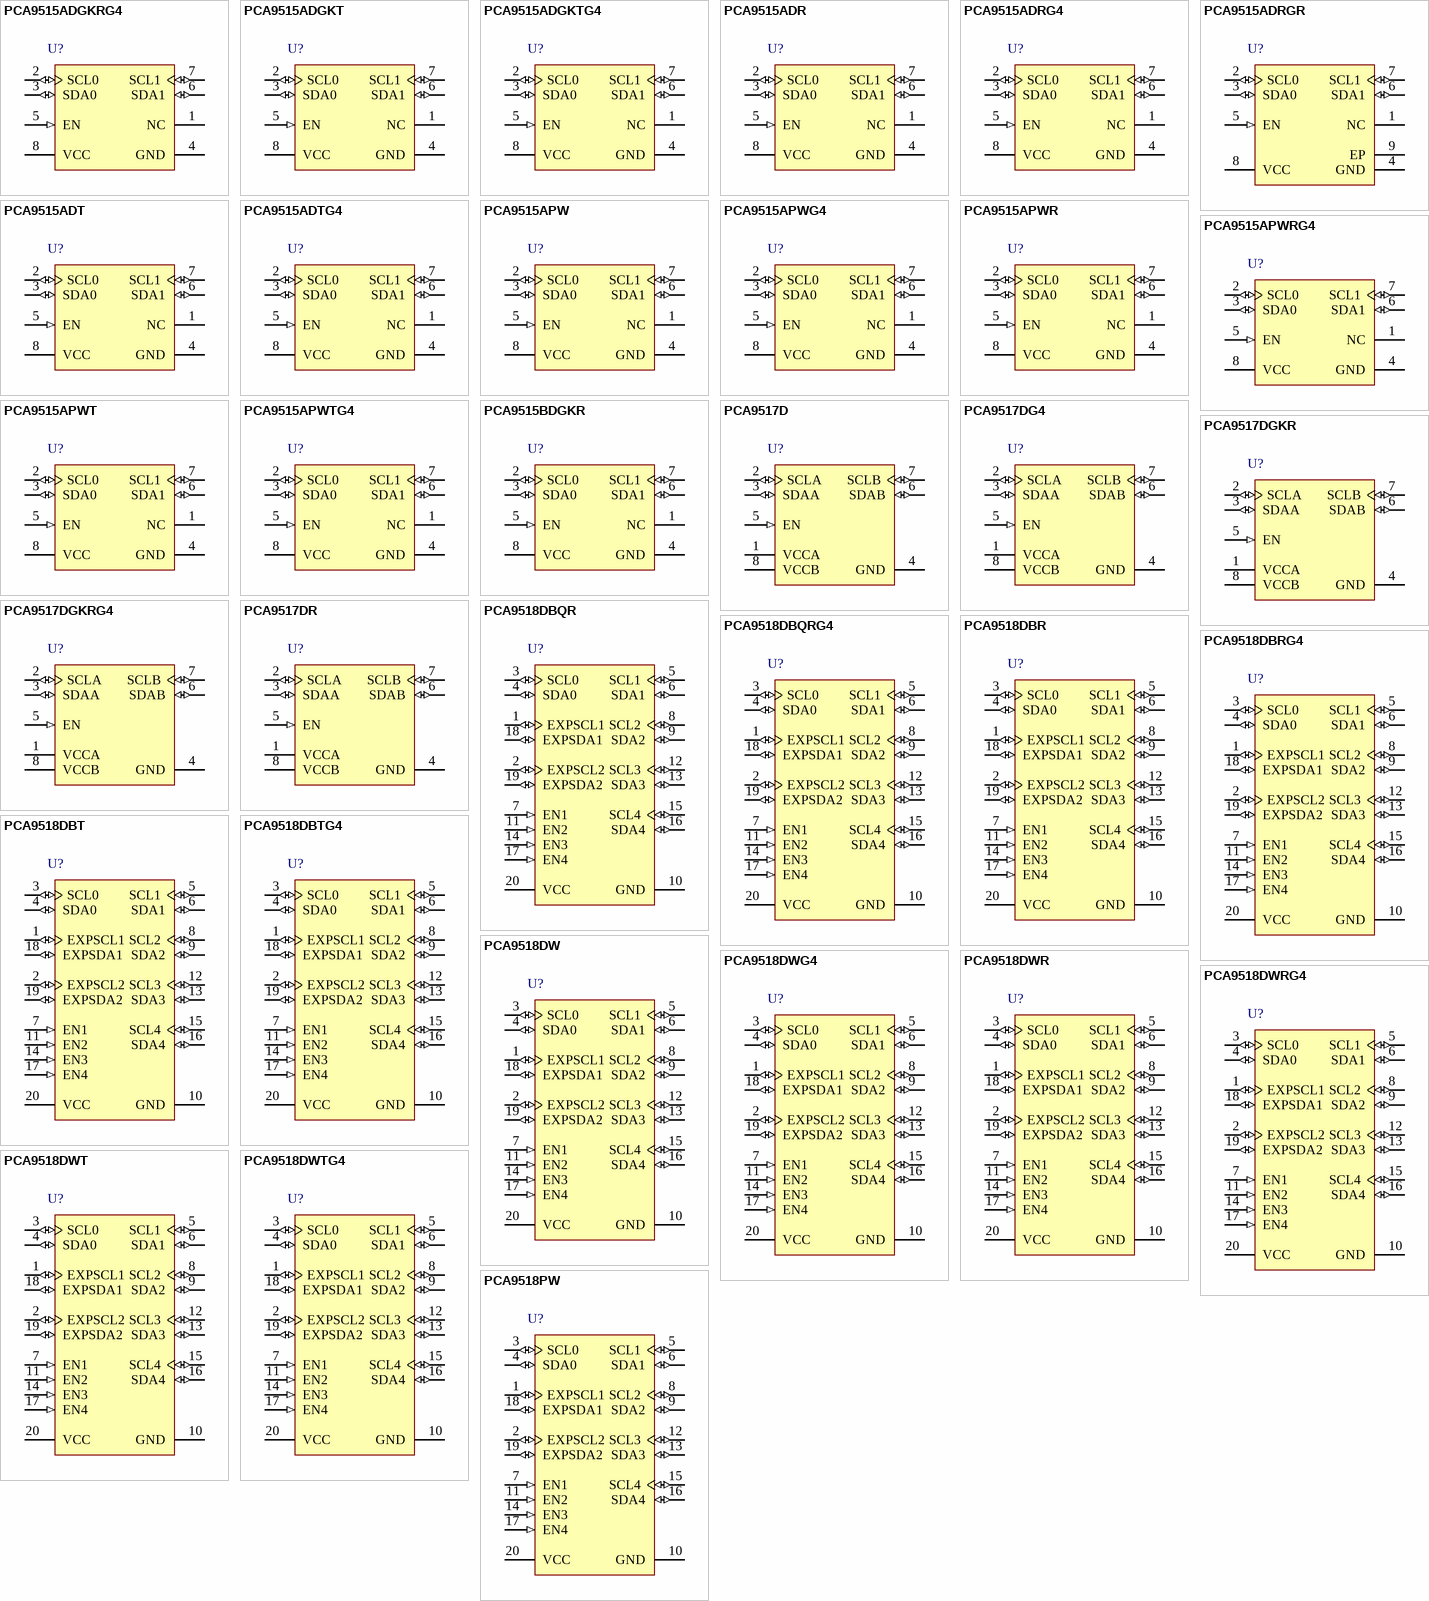
[diagram p1: symbols PCA9515ADGKRG4 to PCA9518PW]

## PCA9515ADGKRG4
designator U?
Dual Bidirectional I2C Bus and SMBus Repeater, 2 Channel Width, 2.3 to 3.6 V, -40 to 85 degC, 8-pin MSOP (DGK), Green (RoHS & no Sb/Br); Manufacturer: Texas Instruments; PartNumber: PCA9515ADGKRG4; SubFamily: I2C Hub, Buffer, Repeater; No. of Outputs: 2; VCC(Max)(V): 3.6; VCC(Min)(V): 2.3; Max Frequency(kHz): 400; Vcc range(V): 2.3 to 5.5; 5V Tolerant I/O: Yes; DatasheetVersion: SCPS150B; PackageVersion: revE, May-2006; PackageReference: DGK8; PackageDescription: 8-Pin Thin Small Outline Package 3 x 3 mm Body ,0.65 mm Pitch; Supplier 1: Digi-Key; Supplier Part Number 1: PCA9515ADGKRG4-ND; Supplier 2: Newark; Supplier Part Number 2: 88K5919; Supplier 3: Mouser; Supplier Part Number 3: 595-PCA9515ADGKRG4; Eco-Plan: Green (RoHS & no Sb/Br); Channel Width: 2; Master Side I2C Bus Capacitance Supported(pF): 400; Slave Side I2C Bus Capacitance Supported(pF): 400; Open Drain I/O Type: Yes; Enable Pin: Yes; Mounting Technology: Surface Mount; Code_JEDEC: MO-187-AA; ComponentLink1Description: Datasheet; ComponentLink1URL: http://www.ti.com/general/docs/lit/getliterature.tsp?genericPartNumber=PCA9515A&fileType=pdf; ComponentLink2Description: Package Specification; ComponentLink2URL: http://www.ti.com/litv/pdf/msoi002j
footprint DGK8_N (TSOP, 8-Leads, Body 3x3mm, Pitch 0.65mm, IPC Medium Density)
footprint DGK8_L (TSOP, 8-Leads, Body 3x3mm, Pitch 0.65mm, IPC High Density)
footprint DGK8_M (TSOP, 8-Leads, Body 3x3mm, Pitch 0.65mm, IPC Low Density)
pins: 1 NC "No internal connection", 2 SCL0 (io) "Serial clock bus 0", 3 SDA0 (io) "Serial data bus 0", 4 GND (power) "Supply ground", 5 EN (in) "Active-high repeater enable input", 6 SDA1 (io) "Serial data bus 1", 7 SCL1 (io) "Serial clock bus 1", 8 VCC (power) "Supply power"

## PCA9515ADGKT
designator U?
Dual Bidirectional I2C Bus and SMBus Repeater, 2 Channel Width, 2.3 to 3.6 V, -40 to 85 degC, 8-pin MSOP (DGK), Green (RoHS & no Sb/Br); Manufacturer: Texas Instruments; PartNumber: PCA9515ADGKT; SubFamily: I2C Hub, Buffer, Repeater; No. of Outputs: 2; VCC(Max)(V): 3.6; VCC(Min)(V): 2.3; Max Frequency(kHz): 400; Vcc range(V): 2.3 to 5.5; 5V Tolerant I/O: Yes; DatasheetVersion: SCPS150B; PackageVersion: revE, May-2006; PackageReference: DGK8; PackageDescription: 8-Pin Thin Small Outline Package 3 x 3 mm Body ,0.65 mm Pitch; Supplier 1: Digi-Key; Supplier Part Number 1: PCA9515ADGKT-ND; Supplier 2: Mouser; Supplier Part Number 2: 595-PCA9515ADGKT; Eco-Plan: Green (RoHS & no Sb/Br); Channel Width: 2; Master Side I2C Bus Capacitance Supported(pF): 400; Slave Side I2C Bus Capacitance Supported(pF): 400; Open Drain I/O Type: Yes; Enable Pin: Yes; Mounting Technology: Surface Mount; Code_JEDEC: MO-187-AA; ComponentLink1Description: Datasheet; ComponentLink1URL: http://www.ti.com/general/docs/lit/getliterature.tsp?genericPartNumber=PCA9515A&fileType=pdf; ComponentLink2Description: Package Specification; ComponentLink2URL: http://www.ti.com/litv/pdf/msoi002j
footprint DGK8_N (TSOP, 8-Leads, Body 3x3mm, Pitch 0.65mm, IPC Medium Density)
footprint DGK8_L (TSOP, 8-Leads, Body 3x3mm, Pitch 0.65mm, IPC High Density)
footprint DGK8_M (TSOP, 8-Leads, Body 3x3mm, Pitch 0.65mm, IPC Low Density)
pins: 1 NC "No internal connection", 2 SCL0 (io) "Serial clock bus 0", 3 SDA0 (io) "Serial data bus 0", 4 GND (power) "Supply ground", 5 EN (in) "Active-high repeater enable input", 6 SDA1 (io) "Serial data bus 1", 7 SCL1 (io) "Serial clock bus 1", 8 VCC (power) "Supply power"

## PCA9515ADGKTG4
designator U?
Dual Bidirectional I2C Bus and SMBus Repeater, 2 Channel Width, 2.3 to 3.6 V, -40 to 85 degC, 8-pin MSOP (DGK), Green (RoHS & no Sb/Br); Manufacturer: Texas Instruments; PartNumber: PCA9515ADGKTG4; SubFamily: I2C Hub, Buffer, Repeater; No. of Outputs: 2; VCC(Max)(V): 3.6; VCC(Min)(V): 2.3; Max Frequency(kHz): 400; Vcc range(V): 2.3 to 5.5; 5V Tolerant I/O: Yes; DatasheetVersion: SCPS150B; PackageVersion: revE, May-2006; PackageReference: DGK8; PackageDescription: 8-Pin Thin Small Outline Package 3 x 3 mm Body ,0.65 mm Pitch; Supplier 1: Digi-Key; Supplier Part Number 1: PCA9515ADGKTG4-ND; Supplier 2: Mouser; Supplier Part Number 2: 595-PCA9515ADGKTG4; Eco-Plan: Green (RoHS & no Sb/Br); Channel Width: 2; Master Side I2C Bus Capacitance Supported(pF): 400; Slave Side I2C Bus Capacitance Supported(pF): 400; Open Drain I/O Type: Yes; Enable Pin: Yes; Mounting Technology: Surface Mount; Code_JEDEC: MO-187-AA; ComponentLink1Description: Datasheet; ComponentLink1URL: http://www.ti.com/general/docs/lit/getliterature.tsp?genericPartNumber=PCA9515A&fileType=pdf; ComponentLink2Description: Package Specification; ComponentLink2URL: http://www.ti.com/litv/pdf/msoi002j
footprint DGK8_N (TSOP, 8-Leads, Body 3x3mm, Pitch 0.65mm, IPC Medium Density)
footprint DGK8_L (TSOP, 8-Leads, Body 3x3mm, Pitch 0.65mm, IPC High Density)
footprint DGK8_M (TSOP, 8-Leads, Body 3x3mm, Pitch 0.65mm, IPC Low Density)
pins: 1 NC "No internal connection", 2 SCL0 (io) "Serial clock bus 0", 3 SDA0 (io) "Serial data bus 0", 4 GND (power) "Supply ground", 5 EN (in) "Active-high repeater enable input", 6 SDA1 (io) "Serial data bus 1", 7 SCL1 (io) "Serial clock bus 1", 8 VCC (power) "Supply power"

## PCA9515ADR
designator U?
Dual Bidirectional I2C Bus and SMBus Repeater, 2 Channel Width, 2.3 to 3.6 V, -40 to 85 degC, 8-pin SOIC (D), Green (RoHS & no Sb/Br); Manufacturer: Texas Instruments; PartNumber: PCA9515ADR; SubFamily: I2C Hub, Buffer, Repeater; No. of Outputs: 2; VCC(Max)(V): 3.6; VCC(Min)(V): 2.3; Max Frequency(kHz): 400; Vcc range(V): 2.3 to 5.5; 5V Tolerant I/O: Yes; DatasheetVersion: SCPS150B; PackageVersion: revM, Jun-2011; PackageReference: D8; PackageDescription: 8-Pin Plastic Small Outline Integrated Circuit, 4.9 x 3.9 mm, Pitch 1.27 mm Pitch; Supplier 1: Digi-Key; Supplier Part Number 1: 296-20945-2-ND; Supplier 2: Digi-Key; Supplier Part Number 2: 296-20945-1-ND; Supplier 3: Digi-Key; Supplier Part Number 3: 296-20945-6-ND; Supplier 4: Newark; Supplier Part Number 4: 80K2691; Supplier 5: Mouser; Supplier Part Number 5: 595-PCA9515ADR; Eco-Plan: Green (RoHS & no Sb/Br); Channel Width: 2; Master Side I2C Bus Capacitance Supported(pF): 400; Slave Side I2C Bus Capacitance Supported(pF): 400; Open Drain I/O Type: Yes; Enable Pin: Yes; Mounting Technology: Surface Mount; Code_JEDEC: MS-012AA; ComponentLink1Description: Datasheet; ComponentLink1URL: http://www.ti.com/general/docs/lit/getliterature.tsp?genericPartNumber=PCA9515A&fileType=pdf
footprint D8_N (SOIC, 8-Leads, Body 4.9x3.9mm, Pitch 1.27mm, IPC Medium Density)
footprint D8_L (SOIC, 8-Leads, Body 4.9x3.9mm, Pitch 1.27mm, IPC High Density)
footprint D8_M (SOIC, 8-Leads, Body 4.9x3.9mm, Pitch 1.27mm, IPC Low Density)
pins: 1 NC "No internal connection", 2 SCL0 (io) "Serial clock bus 0", 3 SDA0 (io) "Serial data bus 0", 4 GND (power) "Supply ground", 5 EN (in) "Active-high repeater enable input", 6 SDA1 (io) "Serial data bus 1", 7 SCL1 (io) "Serial clock bus 1", 8 VCC (power) "Supply power"

## PCA9515ADRG4
designator U?
Dual Bidirectional I2C Bus and SMBus Repeater, 2 Channel Width, 2.3 to 3.6 V, -40 to 85 degC, 8-pin SOIC (D), Green (RoHS & no Sb/Br); Manufacturer: Texas Instruments; PartNumber: PCA9515ADRG4; SubFamily: I2C Hub, Buffer, Repeater; No. of Outputs: 2; VCC(Max)(V): 3.6; VCC(Min)(V): 2.3; Max Frequency(kHz): 400; Vcc range(V): 2.3 to 5.5; 5V Tolerant I/O: Yes; DatasheetVersion: SCPS150B; PackageVersion: revM, Jun-2011; PackageReference: D8; PackageDescription: 8-Pin Plastic Small Outline Integrated Circuit, 4.9 x 3.9 mm, Pitch 1.27 mm Pitch; Supplier 1: Digi-Key; Supplier Part Number 1: PCA9515ADRG4-ND; Supplier 2: Mouser; Supplier Part Number 2: 595-PCA9515ADRG4; Eco-Plan: Green (RoHS & no Sb/Br); Channel Width: 2; Master Side I2C Bus Capacitance Supported(pF): 400; Slave Side I2C Bus Capacitance Supported(pF): 400; Open Drain I/O Type: Yes; Enable Pin: Yes; Mounting Technology: Surface Mount; Code_JEDEC: MS-012AA; ComponentLink1Description: Datasheet; ComponentLink1URL: http://www.ti.com/general/docs/lit/getliterature.tsp?genericPartNumber=PCA9515A&fileType=pdf
footprint D8_N (SOIC, 8-Leads, Body 4.9x3.9mm, Pitch 1.27mm, IPC Medium Density)
footprint D8_L (SOIC, 8-Leads, Body 4.9x3.9mm, Pitch 1.27mm, IPC High Density)
footprint D8_M (SOIC, 8-Leads, Body 4.9x3.9mm, Pitch 1.27mm, IPC Low Density)
pins: 1 NC "No internal connection", 2 SCL0 (io) "Serial clock bus 0", 3 SDA0 (io) "Serial data bus 0", 4 GND (power) "Supply ground", 5 EN (in) "Active-high repeater enable input", 6 SDA1 (io) "Serial data bus 1", 7 SCL1 (io) "Serial clock bus 1", 8 VCC (power) "Supply power"

## PCA9515ADRGR
designator U?
Dual Bidirectional I2C Bus and SMBus Repeater, 2 Channel Width, 2.3 to 3.6 V, -40 to 85 degC, 8-pin WSON (DRG), Green (RoHS & no Sb/Br); Manufacturer: Texas Instruments; PartNumber: PCA9515ADRGR; SubFamily: I2C Hub, Buffer, Repeater; No. of Outputs: 2; VCC(Max)(V): 3.6; VCC(Min)(V): 2.3; Max Frequency(kHz): 400; Vcc range(V): 2.3 to 5.5; 5V Tolerant I/O: Yes; DatasheetVersion: SCPS150B; PackageVersion: revC, Dec-2010; PackageReference: DRG8-2000X1200TP; PackageDescription: 8-Pin Plastic Small Outline No-Lead, 3 x 3 x 0.8 mm Body,  0.5 mm Pitch, Exposed Pad; Supplier 1: Digi-Key; Supplier Part Number 1: 296-23860-2-ND; Supplier 2: Digi-Key; Supplier Part Number 2: 296-23860-1-ND; Supplier 3: Digi-Key; Supplier Part Number 3: 296-23860-6-ND; Supplier 4: Newark; Supplier Part Number 4: 12P7764; Supplier 5: Mouser; Supplier Part Number 5: 595-PCA9515ADRGR; Eco-Plan: Green (RoHS & no Sb/Br); Channel Width: 2; Master Side I2C Bus Capacitance Supported(pF): 400; Slave Side I2C Bus Capacitance Supported(pF): 400; Open Drain I/O Type: Yes; Enable Pin: Yes; Mounting Technology: Surface Mount; Code_JEDEC: MO-229; ComponentLink1Description: Datasheet; ComponentLink1URL: http://www.ti.com/general/docs/lit/getliterature.tsp?genericPartNumber=PCA9515A&fileType=pdf; ComponentLink2Description: Package Specification; ComponentLink2URL: http://www.ti.com/litv/pdf/msoi002j
footprint DRG8-2000X1200TP (SON, 8-Leads, Body 3x3mm, Pitch 0.5mm, Thermal Pad 2x1.2mm, TI Recommended)
pins: 1 NC "No internal connection", 2 SCL0 (io) "Serial clock bus 0", 3 SDA0 (io) "Serial data bus 0", 4 GND (power) "Supply ground", 5 EN (in) "Active-high repeater enable input", 6 SDA1 (io) "Serial data bus 1", 7 SCL1 (io) "Serial clock bus 1", 8 VCC (power) "Supply power", 9 EP "Exposed Pad"

## PCA9515ADT
designator U?
Dual Bidirectional I2C Bus and SMBus Repeater, 2 Channel Width, 2.3 to 3.6 V, -40 to 85 degC, 8-pin SOIC (D), Green (RoHS & no Sb/Br); Manufacturer: Texas Instruments; PartNumber: PCA9515ADT; SubFamily: I2C Hub, Buffer, Repeater; No. of Outputs: 2; VCC(Max)(V): 3.6; VCC(Min)(V): 2.3; Max Frequency(kHz): 400; Vcc range(V): 2.3 to 5.5; 5V Tolerant I/O: Yes; DatasheetVersion: SCPS150B; PackageVersion: revM, Jun-2011; PackageReference: D8; PackageDescription: 8-Pin Plastic Small Outline Integrated Circuit, 4.9 x 3.9 mm, Pitch 1.27 mm Pitch; Supplier 1: Digi-Key; Supplier Part Number 1: 296-28987-2-ND; Supplier 2: Digi-Key; Supplier Part Number 2: 296-28987-1-ND; Supplier 3: Digi-Key; Supplier Part Number 3: 296-28987-6-ND; Supplier 4: Newark; Supplier Part Number 4: 80K2692; Supplier 5: Mouser; Supplier Part Number 5: 595-PCA9515ADT; Eco-Plan: Green (RoHS & no Sb/Br); Channel Width: 2; Master Side I2C Bus Capacitance Supported(pF): 400; Slave Side I2C Bus Capacitance Supported(pF): 400; Open Drain I/O Type: Yes; Enable Pin: Yes; Mounting Technology: Surface Mount; Code_JEDEC: MS-012AA; ComponentLink1Description: Datasheet; ComponentLink1URL: http://www.ti.com/general/docs/lit/getliterature.tsp?genericPartNumber=PCA9515A&fileType=pdf
footprint D8_N (SOIC, 8-Leads, Body 4.9x3.9mm, Pitch 1.27mm, IPC Medium Density)
footprint D8_L (SOIC, 8-Leads, Body 4.9x3.9mm, Pitch 1.27mm, IPC High Density)
footprint D8_M (SOIC, 8-Leads, Body 4.9x3.9mm, Pitch 1.27mm, IPC Low Density)
pins: 1 NC "No internal connection", 2 SCL0 (io) "Serial clock bus 0", 3 SDA0 (io) "Serial data bus 0", 4 GND (power) "Supply ground", 5 EN (in) "Active-high repeater enable input", 6 SDA1 (io) "Serial data bus 1", 7 SCL1 (io) "Serial clock bus 1", 8 VCC (power) "Supply power"

## PCA9515ADTG4
designator U?
Dual Bidirectional I2C Bus and SMBus Repeater, 2 Channel Width, 2.3 to 3.6 V, -40 to 85 degC, 8-pin SOIC (D), Green (RoHS & no Sb/Br); Manufacturer: Texas Instruments; PartNumber: PCA9515ADTG4; SubFamily: I2C Hub, Buffer, Repeater; No. of Outputs: 2; VCC(Max)(V): 3.6; VCC(Min)(V): 2.3; Max Frequency(kHz): 400; Vcc range(V): 2.3 to 5.5; 5V Tolerant I/O: Yes; DatasheetVersion: SCPS150B; PackageVersion: revM, Jun-2011; PackageReference: D8; PackageDescription: 8-Pin Plastic Small Outline Integrated Circuit, 4.9 x 3.9 mm, Pitch 1.27 mm Pitch; Supplier 1: Digi-Key; Supplier Part Number 1: PCA9515ADTG4-ND; Supplier 2: Mouser; Supplier Part Number 2: 595-PCA9515ADTG4; Eco-Plan: Green (RoHS & no Sb/Br); Channel Width: 2; Master Side I2C Bus Capacitance Supported(pF): 400; Slave Side I2C Bus Capacitance Supported(pF): 400; Open Drain I/O Type: Yes; Enable Pin: Yes; Mounting Technology: Surface Mount; Code_JEDEC: MS-012AA; ComponentLink1Description: Datasheet; ComponentLink1URL: http://www.ti.com/general/docs/lit/getliterature.tsp?genericPartNumber=PCA9515A&fileType=pdf
footprint D8_N (SOIC, 8-Leads, Body 4.9x3.9mm, Pitch 1.27mm, IPC Medium Density)
footprint D8_L (SOIC, 8-Leads, Body 4.9x3.9mm, Pitch 1.27mm, IPC High Density)
footprint D8_M (SOIC, 8-Leads, Body 4.9x3.9mm, Pitch 1.27mm, IPC Low Density)
pins: 1 NC "No internal connection", 2 SCL0 (io) "Serial clock bus 0", 3 SDA0 (io) "Serial data bus 0", 4 GND (power) "Supply ground", 5 EN (in) "Active-high repeater enable input", 6 SDA1 (io) "Serial data bus 1", 7 SCL1 (io) "Serial clock bus 1", 8 VCC (power) "Supply power"

## PCA9515APW
designator U?
Dual Bidirectional I2C Bus and SMBus Repeater, 2 Channel Width, 2.3 to 3.6 V, -40 to 85 degC, 8-pin TSSOP (PW), Green (RoHS & no Sb/Br); Manufacturer: Texas Instruments; PartNumber: PCA9515APW; SubFamily: I2C Hub, Buffer, Repeater; No. of Outputs: 2; VCC(Max)(V): 3.6; VCC(Min)(V): 2.3; Max Frequency(kHz): 400; Vcc range(V): 2.3 to 5.5; 5V Tolerant I/O: Yes; DatasheetVersion: SCPS150B; PackageVersion: revG, Feb-2011; PackageReference: PW8; PackageDescription: 8-Pin Plastic Thin Small Outline Package 3 x 4.4 mm Body ,0.65 mm Pitch; Supplier 1: Digi-Key; Supplier Part Number 1: PCA9515APW-ND; Supplier 2: Newark; Supplier Part Number 2: 80K2693; Supplier 3: Mouser; Supplier Part Number 3: 595-PCA9515APW; Eco-Plan: Green (RoHS & no Sb/Br); Channel Width: 2; Master Side I2C Bus Capacitance Supported(pF): 400; Slave Side I2C Bus Capacitance Supported(pF): 400; Open Drain I/O Type: Yes; Enable Pin: Yes; Mounting Technology: Surface Mount; Code_JEDEC: MO-153; ComponentLink1Description: Datasheet; ComponentLink1URL: http://www.ti.com/general/docs/lit/getliterature.tsp?genericPartNumber=PCA9515A&fileType=pdf
footprint PW8_N (TSOP, 8-Leads, Body 3x4.4mm, Pitch 0.65mm, IPC Medium Density)
footprint PW8_L (TSOP, 8-Leads, Body 3x4.4mm, Pitch 0.65mm, IPC High Density)
footprint PW8_M (TSOP, 8-Leads, Body 3x4.4mm, Pitch 0.65mm, IPC Low Density)
pins: 1 NC "No internal connection", 2 SCL0 (io) "Serial clock bus 0", 3 SDA0 (io) "Serial data bus 0", 4 GND (power) "Supply ground", 5 EN (in) "Active-high repeater enable input", 6 SDA1 (io) "Serial data bus 1", 7 SCL1 (io) "Serial clock bus 1", 8 VCC (power) "Supply power"

## PCA9515APWG4
designator U?
Dual Bidirectional I2C Bus and SMBus Repeater, 2 Channel Width, 2.3 to 3.6 V, -40 to 85 degC, 8-pin TSSOP (PW), Green (RoHS & no Sb/Br); Manufacturer: Texas Instruments; PartNumber: PCA9515APWG4; SubFamily: I2C Hub, Buffer, Repeater; No. of Outputs: 2; VCC(Max)(V): 3.6; VCC(Min)(V): 2.3; Max Frequency(kHz): 400; Vcc range(V): 2.3 to 5.5; 5V Tolerant I/O: Yes; DatasheetVersion: SCPS150B; PackageVersion: revG, Feb-2011; PackageReference: PW8; PackageDescription: 8-Pin Plastic Thin Small Outline Package 3 x 4.4 mm Body ,0.65 mm Pitch; Supplier 1: Digi-Key; Supplier Part Number 1: PCA9515APWG4-ND; Supplier 2: Newark; Supplier Part Number 2: 46M6763; Supplier 3: Mouser; Supplier Part Number 3: 595-PCA9515APWG4; Eco-Plan: Green (RoHS & no Sb/Br); Channel Width: 2; Master Side I2C Bus Capacitance Supported(pF): 400; Slave Side I2C Bus Capacitance Supported(pF): 400; Open Drain I/O Type: Yes; Enable Pin: Yes; Mounting Technology: Surface Mount; Code_JEDEC: MO-153; ComponentLink1Description: Datasheet; ComponentLink1URL: http://www.ti.com/general/docs/lit/getliterature.tsp?genericPartNumber=PCA9515A&fileType=pdf
footprint PW8_N (TSOP, 8-Leads, Body 3x4.4mm, Pitch 0.65mm, IPC Medium Density)
footprint PW8_L (TSOP, 8-Leads, Body 3x4.4mm, Pitch 0.65mm, IPC High Density)
footprint PW8_M (TSOP, 8-Leads, Body 3x4.4mm, Pitch 0.65mm, IPC Low Density)
pins: 1 NC "No internal connection", 2 SCL0 (io) "Serial clock bus 0", 3 SDA0 (io) "Serial data bus 0", 4 GND (power) "Supply ground", 5 EN (in) "Active-high repeater enable input", 6 SDA1 (io) "Serial data bus 1", 7 SCL1 (io) "Serial clock bus 1", 8 VCC (power) "Supply power"

## PCA9515APWR
designator U?
Dual Bidirectional I2C Bus and SMBus Repeater, 2 Channel Width, 2.3 to 3.6 V, -40 to 85 degC, 8-pin TSSOP (PW), Green (RoHS & no Sb/Br); Manufacturer: Texas Instruments; PartNumber: PCA9515APWR; SubFamily: I2C Hub, Buffer, Repeater; No. of Outputs: 2; VCC(Max)(V): 3.6; VCC(Min)(V): 2.3; Max Frequency(kHz): 400; Vcc range(V): 2.3 to 5.5; 5V Tolerant I/O: Yes; DatasheetVersion: SCPS150B; PackageVersion: revG, Feb-2011; PackageReference: PW8; PackageDescription: 8-Pin Plastic Thin Small Outline Package 3 x 4.4 mm Body ,0.65 mm Pitch; Supplier 1: Digi-Key; Supplier Part Number 1: 296-20946-2-ND; Supplier 2: Digi-Key; Supplier Part Number 2: 296-20946-1-ND; Supplier 3: Digi-Key; Supplier Part Number 3: 296-20946-6-ND; Supplier 4: Newark; Supplier Part Number 4: 80K2694; Supplier 5: Mouser; Supplier Part Number 5: 595-PCA9515APWR; Eco-Plan: Green (RoHS & no Sb/Br); Channel Width: 2; Master Side I2C Bus Capacitance Supported(pF): 400; Slave Side I2C Bus Capacitance Supported(pF): 400; Open Drain I/O Type: Yes; Enable Pin: Yes; Mounting Technology: Surface Mount; Code_JEDEC: MO-153; ComponentLink1Description: Datasheet; ComponentLink1URL: http://www.ti.com/general/docs/lit/getliterature.tsp?genericPartNumber=PCA9515A&fileType=pdf
footprint PW8_N (TSOP, 8-Leads, Body 3x4.4mm, Pitch 0.65mm, IPC Medium Density)
footprint PW8_L (TSOP, 8-Leads, Body 3x4.4mm, Pitch 0.65mm, IPC High Density)
footprint PW8_M (TSOP, 8-Leads, Body 3x4.4mm, Pitch 0.65mm, IPC Low Density)
pins: 1 NC "No internal connection", 2 SCL0 (io) "Serial clock bus 0", 3 SDA0 (io) "Serial data bus 0", 4 GND (power) "Supply ground", 5 EN (in) "Active-high repeater enable input", 6 SDA1 (io) "Serial data bus 1", 7 SCL1 (io) "Serial clock bus 1", 8 VCC (power) "Supply power"